# EAGLE library part MCP45HVX1 (library testLib)
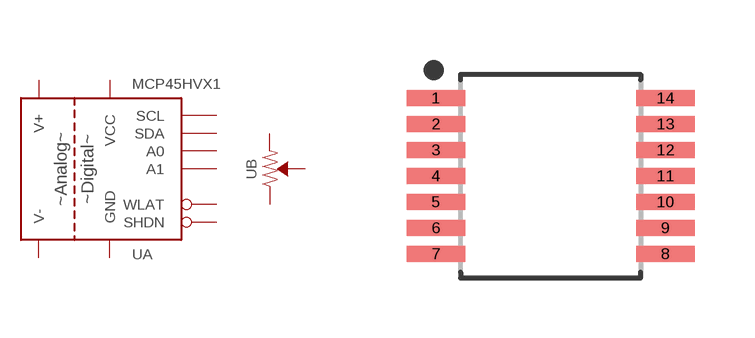
[diagram p1: symbol with the pads of SOP65P640X120-14; footprint SOP65P640X120-14]

Designator prefix U; gates A=DPOT-MAIN B=DPOT-RES

## MCP45HVX1-14TSSOP  [SOP65P640X120-14]
1  A:VCC  pwr
2  A:SCL
3  A:A1
4  A:SDA
5  A:A0
6  A:WLAT
8  A:SHDN
9  A:GND  pwr
10  A:V-  pwr
11  B:CCW  pas
12  B:WIPER  pas
13  B:CW  pas
14  A:V+  pwr

## Footprint SOP65P640X120-14 (pad centres in mm)
14-SOP, 0.65 mm pitch, 6.40 mm span, 5.00 X 4.40 X 1.20 mm body 14-pin SOP package with 0.65 mm pitch, 6.40 mm span with body size 5.00 X 4.40 X 1.20 mm
smd 1.469 x 0.407: 1 -2.871,1.95; 2 -2.871,1.3; 3 -2.871,0.65; 4 -2.871,0; 5 -2.871,-0.65; 6 -2.871,-1.3; 7 -2.871,-1.95; 8 2.871,-1.95; 9 2.871,-1.3; 10 2.871,-0.65; 11 2.871,0; 12 2.871,0.65; 13 2.871,1.3; 14 2.871,1.95